# EAGLE library part DG408DJ-E3 (library Vishay)
8-Ch/Dual 4-Ch High-Performance CMOS Analog Multiplexers
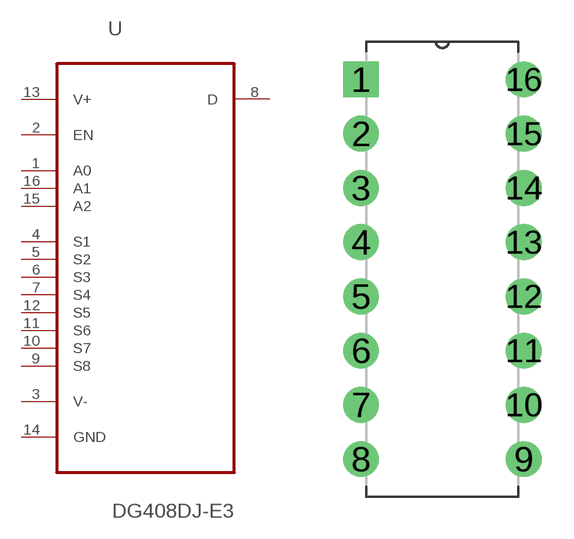
[diagram p29: symbol with the pads of DIP254P762X508-16; footprint DIP254P762X508-16]

Designator prefix U

## DG408DJ-E3 (MPN: DG408DJ-E3; OC_FARNELL: 1077111; OC_NEWARK: 49K9561; PACKAGE: PDIP-16; SUPPLIER: VISHAY SILICONIX)  [DIP254P762X508-16]
1  A0  in
2  EN  in
3  V-  in
4  S1  pas
5  S2  pas
6  S3  pas
7  S4  pas
8  D  out
9  S8  pas
10  S7  pas
11  S6  pas
12  S5  pas
13  V+  pwr
14  GND  pas
15  A2  in
16  A1  in

## Footprint DIP254P762X508-16 (pad centres in mm)
drill 1.118 square: 1 -7.62,17.78
drill 1.118: 2 -7.62,15.24; 3 -7.62,12.7; 4 -7.62,10.16; 5 -7.62,7.62; 6 -7.62,5.08; 7 -7.62,2.54; 8 -7.62,0; 9 0,0; 10 0,2.54; 11 0,5.08; 12 0,7.62; 13 0,10.16; 14 0,12.7; 15 0,15.24; 16 0,17.78